# Altium footprint library SMD-Q  0607.PcbLib: 73 footprints (part 5 of 5)
Each footprint in its own frame and in the unit in brackets; x right, y up, seen from the top. Pads: shape width x height; smd on the part's side, far side on the other; paste and mask are expansions set on the pad; w line width, h text height; cw(c..) or ccw(c..) is an arc to the next point about the centre after c.
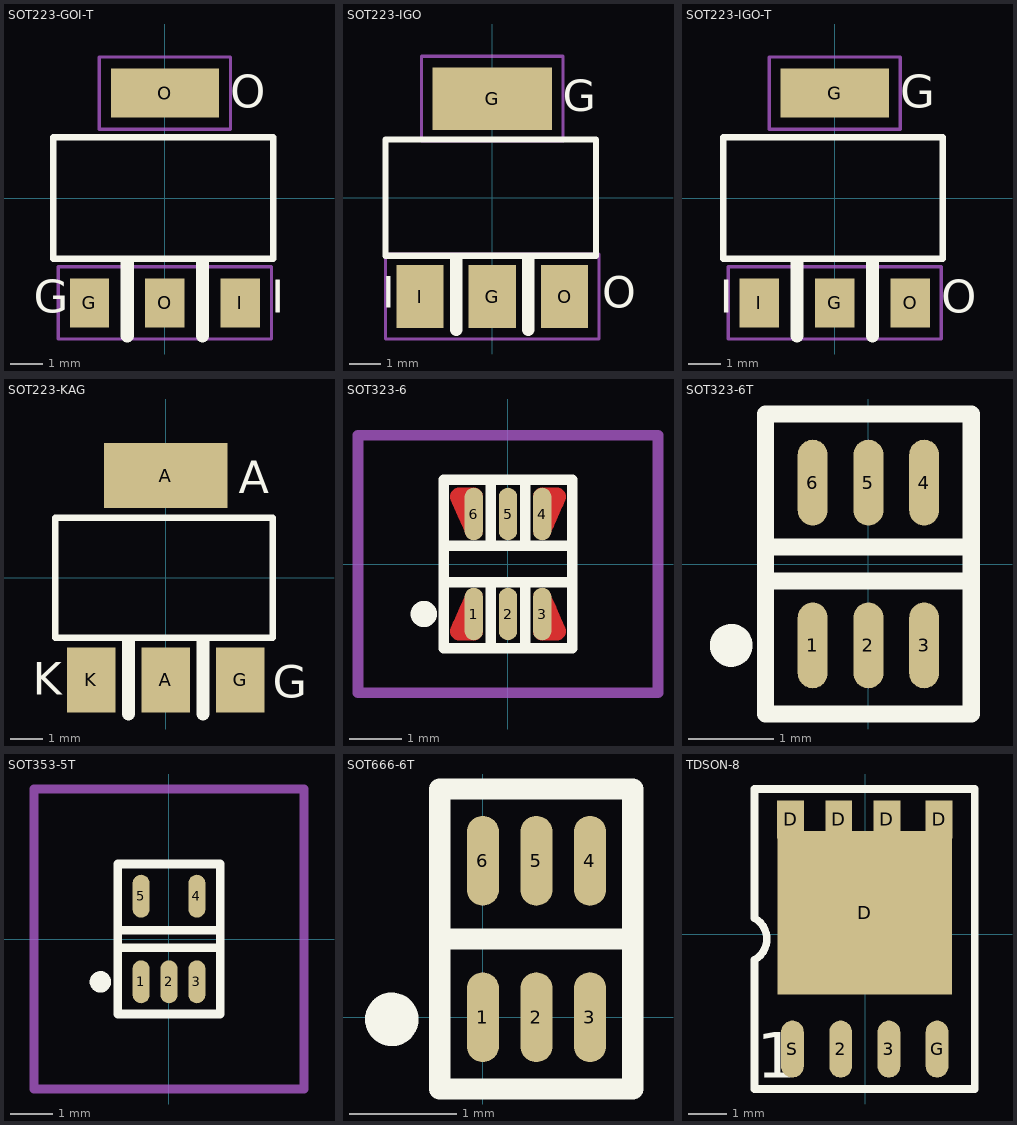
[diagram p4: the footprints below, top view; thin cyan lines are the x and y axes]

## SOT223-GOI-T [mm]
height 1.7
pads (4):
  rect 1.2x1.5 smd: G(-2.3,-3.2) I(2.3,-3.2) O(0,-3.2)
  rect 3.3x1.5 smd: O(0,3.2)
Top Overlay:
  lines w0.2: -3.4,-1.85 3.3,-1.85 3.3,1.85 -3.4,1.85 -3.4,-1.85
  lines w0.4: -1.15,-4.2 -1.15,-2 ; 1.15,-4.2 1.15,-2
  text "O" at 2,2.75 h1
  text "G" at -4,-3.5 h1
  text "I" at 3.25,-3.5 h1
Mechanical 15:
  lines w0.1: -3.25,-4.3 3.25,-4.3 3.25,-2.1 -3.25,-2.1 -3.25,-4.3 ; -2,2.1 2,2.1 2,4.3 -2,4.3 -2,2.1

## SOT223-IGO [mm]
height 1.7
pads (4):
  rect 1.5x2 smd: G(0,-3.15) I(-2.3,-3.15) O(2.3,-3.15)
  rect 3.8x2 smd: G(0,3.15)
Top Overlay:
  lines w0.2: -3.4,-1.85 3.3,-1.85 3.3,1.85 -3.4,1.85 -3.4,-1.85
  lines w0.4: -1.15,-4.2 -1.15,-2 ; 1.15,-4.2 1.15,-2
  text "O" at 3.5,-3.5 h1
  text "I" at -3.5,-3.5 h1
  text "G" at 2.25,2.75 h1
Mechanical 16:
  lines w0.1: -3.4,-4.5 3.4,-4.5 3.4,-1.8 -3.4,-1.8 -3.4,-4.5 ; -2.25,1.8 -2.25,4.5 2.25,4.5 2.25,1.8 -2.25,1.8

## SOT223-IGO-T [mm]
height 1.7
pads (4):
  rect 1.2x1.5 smd: G(0,-3.2) I(-2.3,-3.2) O(2.3,-3.2)
  rect 3.3x1.5 smd: G(0,3.2)
Top Overlay:
  lines w0.2: -3.4,-1.85 -3.4,1.85 3.3,1.85 3.3,-1.85 -3.4,-1.85
  lines w0.4: -1.15,-4.2 -1.15,-2 ; 1.15,-4.2 1.15,-2
  text "G" at 2,2.75 h1
  text "I" at -3.5,-3.5 h1
  text "O" at 3.25,-3.5 h1
Mechanical 15:
  lines w0.1: -3.25,-4.3 -3.25,-2.1 3.25,-2.1 3.25,-4.3 -3.25,-4.3 ; -2,2.1 -2,4.3 2,4.3 2,2.1 -2,2.1

## SOT223-KAG [mm]
height 1.7
pads (4):
  rect 1.5x2 smd: A(0,-3.15) G(2.3,-3.15) K(-2.3,-3.15)
  rect 3.8x2 smd: A(0,3.15)
Top Overlay:
  lines w0.2: -3.4,-1.85 -3.4,1.85 3.3,1.85 3.3,-1.85 -3.4,-1.85
  lines w0.4: -1.15,-4.2 -1.15,-2 ; 1.15,-4.2 1.15,-2
  text "A" at 2.25,2.6 h1
  text "K" at -4.1,-3.6 h1
  text "G" at 3.3,-3.7 h1

## SOT323-6 [mm]
height 1.1
pads (6):
  oval 0.35x1 smd: 1(-0.65,-0.95) 2(0,-0.95) 3(0.65,-0.95) 4(0.65,0.95) 5(0,0.95) 6(-0.65,0.95)
Top Layer:
  lines w0.35: -0.65,-1.275 -0.925,-1.275 -0.886,-1.186 -0.782,-0.95 -0.761,-0.901 -0.65,-0.65 ; -0.65,0.65 -0.742,0.858 -0.761,0.901 -0.9,1.218 -0.925,1.275 -0.9,1.275 -0.65,1.275 ; 0.65,-1.275 0.925,-1.275 0.782,-0.95 0.761,-0.901 ; 0.65,-0.65 0.757,-0.893 0.761,-0.901 ; 0.65,0.65 0.704,0.772 0.742,0.858 0.749,0.874 0.761,0.901 0.782,0.95 0.886,1.186 0.925,1.275 0.65,1.275 ; 0.761,-0.901 0.761,-0.901 ; 0.761,-0.901 0.761,-0.901 ; 0.761,-0.901 0.761,-0.901 ; 0.761,-0.901 0.761,-0.901 ; 0.761,-0.901 0.761,-0.901 ; 0.761,-0.901 0.761,-0.901 ; 0.761,-0.901 0.761,-0.901 ; 0.761,-0.901 0.761,-0.901 ; 0.761,-0.901 0.761,-0.901 ; 0.761,-0.901 0.761,-0.901 ; 0.761,-0.901 0.761,-0.901
Top Overlay:
  circle w0.3: c-1.6,-0.95 r0.1
  lines w0.2: -1.225,-0.35 1.225,-0.35 ; -1.225,0.35 1.225,0.35 ; -0.325,-1.6 -0.325,-0.45 ; -0.325,0.45 -0.325,1.6 ; 0.325,-1.6 0.325,-0.45 ; 0.325,0.45 0.325,1.6 ; -1.225,-1.6 -1.225,1.6 1.225,1.6 1.225,-1.6 -1.225,-1.6
Top Solder:
  lines w0.35: -0.65,-1.275 -0.925,-1.275 -0.65,-0.65 ; -0.65,0.65 -0.925,1.275 -0.65,1.275 ; 0.65,-1.275 0.925,-1.275 0.65,-0.65 ; 0.65,0.65 0.925,1.275 0.65,1.275
Mechanical 8:
  lines w0.2: -2.85,-2.45 2.85,-2.45 2.85,2.45 -2.85,2.45 -2.85,-2.45

## SOT323-6T [mm]
height 1.1
pads (6):
  oval 0.35x1 smd: 1(-0.65,-0.95) 2(0,-0.95) 3(0.65,-0.95) 4(0.65,0.95) 5(0,0.95) 6(-0.65,0.95)
Top Overlay:
  circle w0.3: c-1.6,-0.95 r0.1
  lines w0.2: -1.2,-0.2 1.2,-0.2 ; -1.2,0.2 1.2,0.2 ; -1.2,-1.75 -1.2,1.75 1.2,1.75 1.2,-1.75 -1.2,-1.75

## SOT353-5T [mm]
height 1.1
pads (5):
  oval 0.4x1 smd: 1(-0.65,-1) 2(0,-1) 3(0.65,-1) 4(0.65,1) 5(-0.65,1)
Top Overlay:
  circle w0.3: c-1.6,-1 r0.1
  lines w0.2: -1.2,-0.2 1.2,-0.2 ; -1.2,0.2 1.2,0.2 ; 1.15,-1.75 -1.2,-1.75 -1.2,1.75 1.2,1.75 1.2,-1.75
Mechanical 7:
  lines w0.2: -3.15,-3.5 3.15,-3.5 3.15,3.5 -3.15,3.5 -3.15,-3.5

## SOT666-6T [mm]
height 0.6
pads (6):
  oval 0.3x0.84 smd: 1(0,0) 2(0.5,0) 3(1,0) 4(1,1.46) 5(0.5,1.46) 6(0,1.46)
Top Overlay:
  circle w0.3: c-0.85,-0.02 r0.1
  lines w0.2: -0.4,0.73 1.4,0.73 ; -0.4,-0.67 -0.4,2.13 1.4,2.13 1.4,-0.67 -0.4,-0.67

## TDSON-8 [mm]
pads (9):
  oval 0.6x1.5 smd: 2(-0.646,-3.028) 3(0.624,-3.028) G(1.894,-3.028) S(-1.916,-3.028)
  rect 0.7x1 smd: D(-1.966,3.022) D(-0.696,3.022) D(0.574,3.022) D(1.944,3.022)
  rect 4.6x4.3 smd: D(-0.016,0.562)
Top Overlay:
  lines w0.2: -2.916,-4.078 -2.916,-0.678 ccw(c-3.216,-0.128) -2.916,0.422 -2.916,3.822 2.884,3.822 2.884,-4.078 -2.916,-4.078
  text "1" at -2.859,-3.778 h1.2